# Altium footprint library czc.PcbLib: 157 footprints (part 6 of 10)
Each footprint in its own frame and in the unit in brackets; x right, y up, seen from the top. Pads: shape width x height; smd on the part's side, far side on the other; paste and mask are expansions set on the pad; w line width, h text height; cw(c..) or ccw(c..) is an arc to the next point about the centre after c.
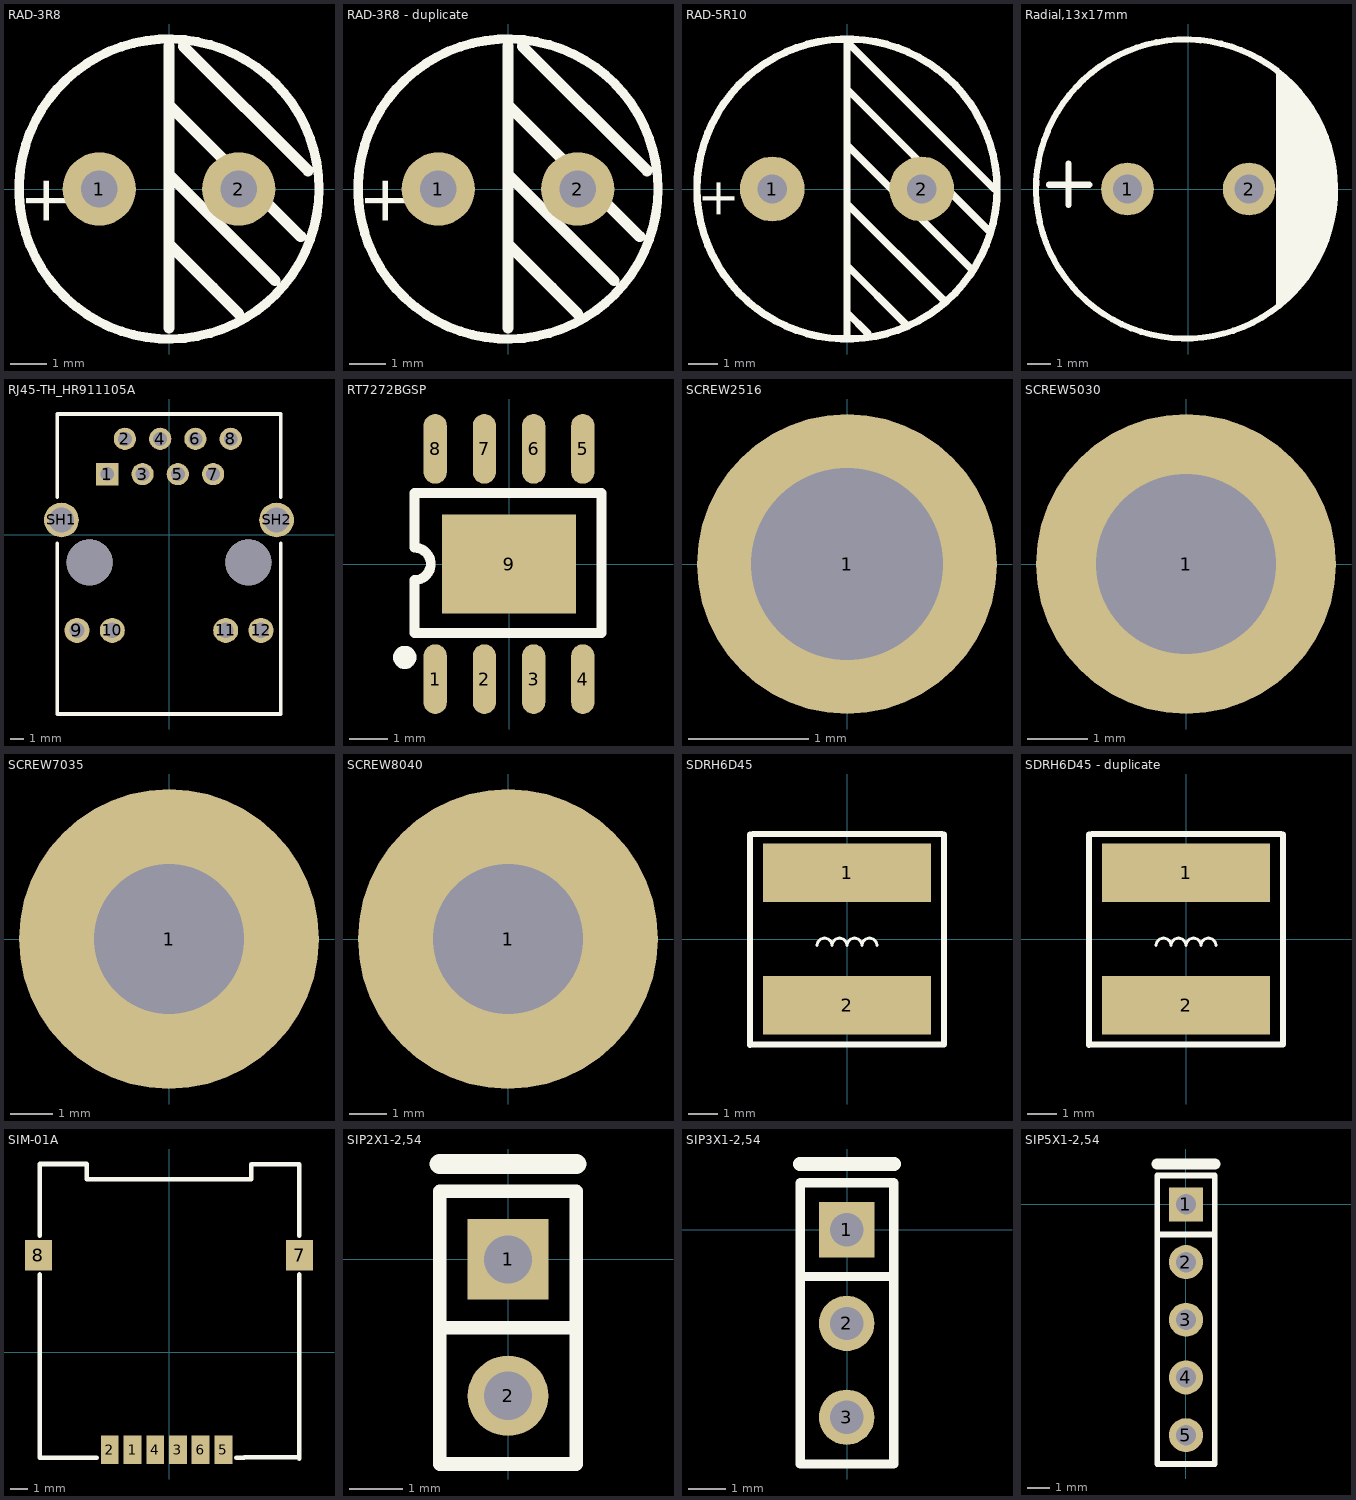
[diagram p5: the footprints below, top view; thin cyan lines are the x and y axes]

## RAD-3R8 [mm]
pads (2):
  round 2 hole 1: 1(-1.905,0) 2(1.905,0)
Top Overlay:
  circle w0.254: c0,0 r4.1
  lines w0.305: 0,-3.8 0,-2.9 0,2.9 0,3.9 ; 0,-1.5 1.2,-2.7 1.9,-3.4 ; 0,0.4 2.3,-1.9 2.9,-2.5 ; 0,2.3 2.9,-0.6 3.6,-1.3 ; 0.4,3.9 3.8,0.5
  text "+" at -3.9,0.4 h1.27

## RAD-3R8 - duplicate [mm]
pads (2):
  round 2 hole 1: 1(-1.905,0) 2(1.905,0)
Top Overlay:
  circle w0.254: c0,0 r4.1
  lines w0.305: 0,-3.8 0,-2.9 0,2.9 0,3.9 ; 0,-1.5 1.2,-2.7 1.9,-3.4 ; 0,0.4 2.3,-1.9 2.9,-2.5 ; 0,2.3 2.9,-0.6 3.6,-1.3 ; 0.4,3.9 3.8,0.5
  text "+" at -3.9,0.4 h1.27

## RAD-5R10 [mm]
pads (2):
  round 2.2 hole 1: 1(-2.54,0) 2(2.54,0)
Top Overlay:
  circle w0.254: c0,0 r5.1
  lines w0.254: 0,-5 0,5 5,0 ; 0,-4.2 0.7,-4.9 ; 0,-2.6 2,-4.6 ; 0,-0.5 3.3,-3.8 ; 0,1.5 4.2,-2.7 ; 0,3.4 4.8,-1.4
  text "+" at -4.9,0.4 h1.27

## Radial,13x17mm [mm]
pads (2):
  round 2.2 hole 1.2: 1(-2.54,0) 2(2.54,0)
Top Overlay:
  region: 3.683,5.004 3.683,-4.928 3.734,-4.978 4.801,-3.734 4.902,-3.683 5.258,-3.099 5.436,-2.718 5.715,-2.311 5.817,-1.702 5.994,-1.524 5.994,-0.711 6.148,-0.557 6.148,0.433 6.172,0.457 6.071,0.559 5.994,1.422 5.842,1.626 5.715,2.362 5.385,2.819 5.283,3.226 4.851,3.759 4.851,3.785
  lines w0.254: -5.817,0.178 -4.14,0.178 ; -5.004,-0.66 -5.004,1.067 ; -0.025,6.251 ccw(c-0.116,0.002) 0.084,6.248

## RJ45-TH_HR911105A [mm]
pads (16):
  rect 1.6x1.6 hole 1: 1(-4.445,4.355)
  round 1.6 hole 1: 2(-3.175,6.895) 3(-1.905,4.355) 4(-0.635,6.895) 5(0.635,4.355) 6(1.905,6.895) 7(3.175,4.355) 8(4.445,6.895)
  round 1.8 hole 1.1: 9(-6.625,-6.895) 10(-4.085,-6.895) 11(4.085,-6.895) 12(6.625,-6.895)
  round 2.5 hole 1.8: SH1(-7.745,1.055) SH2(7.745,1.055)
  round 3.3 hole 3.3 unplated: ""(-5.715,-1.995) ""(5.715,-1.995)
Top Overlay:
  lines w0.254: -8.05,-0.615 -8.05,-12.915 8.05,-12.915 8.05,-0.615 ; -8.05,2.685 -8.05,8.685 8.05,8.685 ; 8.05,2.685 8.05,8.685

## RT7272BGSP [mm]
pads (9):
  oval 0.6x1.798 smd: 1(-1.905,-2.972) 2(-0.635,-2.972) 3(0.635,-2.972) 4(1.905,-2.972) 5(1.905,2.972) 6(0.635,2.972) 7(-0.635,2.972) 8(-1.905,2.972)
  rect 3.45x2.56 smd: 9(0,0)
Top Overlay:
  lines w0.254: -2.438,-1.778 2.388,-1.778 2.388,1.829 -2.413,1.829 -2.438,1.829 -2.438,0.42 cw(c-2.438,0.002) -2.438,-0.417 -2.438,-1.778
  lines w0.3: -2.692,-2.261 ccw(c-2.691,-2.411) -2.69,-2.261

## SCREW2516 [mm]
pads (1):
  round 2.5 hole 1.6: 1(0,0)

## SCREW5030 [mm]
pads (1):
  round 5 hole 3: 1(0,0)

## SCREW7035 [mm]
pads (1):
  round 7 hole 3.5: 1(0,0)

## SCREW8040 [mm]
pads (1):
  round 8 hole 4: 1(0,0)

## SDRH6D45 [mm]
pads (2):
  rect 5.7x2 smd: 1(0,2.25) 2(0,-2.25)
Top Overlay:
  lines w0.1: -1.016,-0.225 cw(c-0.762,-0.225) -0.508,-0.225 cw(c-0.254,-0.225) 0,-0.225 cw(c0.254,-0.225) 0.508,-0.225 cw(c0.762,-0.225) 1.016,-0.225
  lines w0.2: -3.302,-3.607 -3.302,3.556 ; -3.277,-3.592 3.226,-3.592 ; -3.2,3.571 3.226,3.571 ; 3.302,-3.581 3.302,3.556

## SDRH6D45 - duplicate [mm]
pads (2):
  rect 5.7x2 smd: 1(0,2.25) 2(0,-2.25)
Top Overlay:
  lines w0.1: -1.016,-0.225 cw(c-0.762,-0.225) -0.508,-0.225 cw(c-0.254,-0.225) 0,-0.225 cw(c0.254,-0.225) 0.508,-0.225 cw(c0.762,-0.225) 1.016,-0.225
  lines w0.2: -3.302,-3.607 -3.302,3.556 ; -3.277,-3.592 3.226,-3.592 ; -3.2,3.571 3.226,3.571 ; 3.302,-3.581 3.302,3.556

## SIM-01A [mm]
pads (8):
  rect 1x1.6 smd: 1(-2.041,-5.44) 2(-3.311,-5.44) 3(0.499,-5.44) 4(-0.771,-5.44) 5(3.039,-5.44) 6(1.769,-5.44)
  rect 1.5x1.7 smd: 7(7.3,5.44) 8(-7.3,5.44)
Top Overlay:
  lines w0.254: -7.23,-5.88 -7.23,4.359 ; -7.23,6.521 -7.23,10.54 -4.6,10.54 ; -7.22,-5.88 -4.16,-5.88 -4.043,-5.88 ; -4.6,10.528 -4.6,9.68 4.6,9.68 ; 3.77,-5.88 4.21,-5.88 ; 4.22,-5.87 7.28,-5.87 ; 4.6,9.682 4.6,10.53 7.279,10.531 7.279,6.521 ; 7.279,-5.94 7.279,4.359

## SIP2X1-2,54 [mm]
pads (2):
  rect 1.5x1.5 hole 0.9: 1(0,0)
  round 1.5 hole 0.9: 2(0,-2.54)
Top Overlay:
  lines w0.254: -1.27,-1.27 1.27,-1.27 ; -1.27,-3.81 -1.27,1.27 1.27,1.27 1.27,-3.81 -1.27,-3.81
  lines w0.381: -1.27,1.778 1.27,1.778
3D body "1001-2.STEP": height 8.54, standoff -3, extent -1.27,-3.683 1.27,1.397

## SIP3X1-2,54 [mm]
pads (3):
  rect 1.5x1.5 hole 0.9: 1(-0.009,-0.003)
  round 1.5 hole 0.9: 2(-0.009,-2.543) 3(-0.009,-5.083)
Top Overlay:
  lines w0.254: -1.27,-1.27 1.27,-1.27 ; -1.27,-6.35 -1.27,1.27 1.27,1.27 1.27,-6.35 -1.27,-6.35
  lines w0.381: -1.27,1.778 1.27,1.778
3D body "1001-3.STEP": height 8.54, standoff -3, extent -1.397,-6.35 1.143,1.27

## SIP5X1-2,54 [mm]
pads (5):
  rect 1.5x1.5 hole 0.9: 1(0,0)
  round 1.5 hole 0.9: 2(0,-2.54) 3(0,-5.08) 4(0,-7.62) 5(0,-10.16)
Top Overlay:
  lines w0.254: -1.27,-1.32 1.27,-1.32 ; -1.27,-11.43 -1.27,1.27 1.27,1.27 1.27,-11.43 -1.27,-11.43
  lines w0.504: -1.27,1.778 1.27,1.778